# Altium footprint library 4-PLCC.PcbLib: 1 footprints
Each footprint in its own frame and in the unit in brackets; x right, y up, seen from the top. Pads: shape width x height; smd on the part's side, far side on the other; paste and mask are expansions set on the pad; w line width, h text height; cw(c..) or ccw(c..) is an arc to the next point about the centre after c.
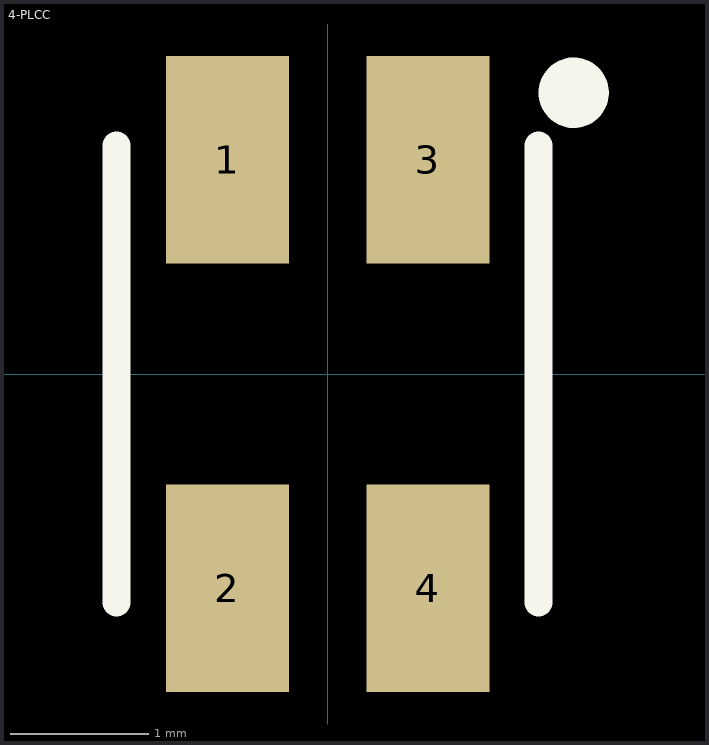
[diagram p0: the footprint, top view; thin cyan lines are the x and y axes]

## 4-PLCC [mil]
height 73
pads (4):
  rect 35x59 smd: 1(-28.5,61) 2(-28.5,-61) 3(28.5,61) 4(28.5,-61)
Top Overlay:
  circle w10: c70,80 r5
  lines w8: -60,-65 -60,65 ; 60,-65 60,65
3D body: height 76, standoff 0, extent -55,-63 55,63